# Altium schematic symbol library Schlib3.SchLib: 7 symbols
Pins are listed as number, name and electrical type; pins without a type are passive.

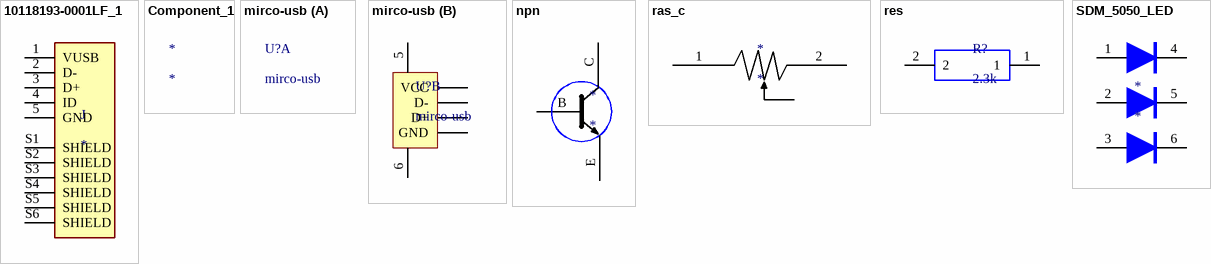
[diagram p0: symbols 10118193-0001LF_1 to SDM_5050_LED]

## 10118193-0001LF_1
designator J
USB - micro B USB 2.0 Receptacle Connector 5 Position Surface Mount, Right Angle; Through Hole; MP: 10118193-0001LF; MF: Amphenol ICC; Availability: Unavailable; SnapEDA_Link: https://www.snapeda.com/parts/10118193-0001LF/Amphenol%20FCI/view-part/2758989/?ref=snap; Price: None; Value: *; Package: None
footprint FCI_10118193-0001LF
pins: 1 VUSB, 2 D-, 3 D+, 4 ID, 5 GND, S1 SHIELD, S2 SHIELD, S3 SHIELD, S4 SHIELD, S5 SHIELD, S6 SHIELD

## Component_1
designator *

## mirco-usb
designator U?
part B pins: 1 VCC, 2 D-, 3 D+, 4 GND, 5, 6

## npn
designator *
pins: B, C, E

## ras_c
designator *
pins: 1, 2

## res
designator R?, comment 2.3k
pins: 1, 2

## SDM_5050_LED
designator *
pins: 1, 2, 3, 4, 5, 6